# Altium footprint library MF_Passives.PCBLIB: 20 footprints (part 1 of 2)
Each footprint in its own frame and in the unit in brackets; x right, y up, seen from the top. Pads: shape width x height; smd on the part's side, far side on the other; paste and mask are expansions set on the pad; w line width, h text height; cw(c..) or ccw(c..) is an arc to the next point about the centre after c.
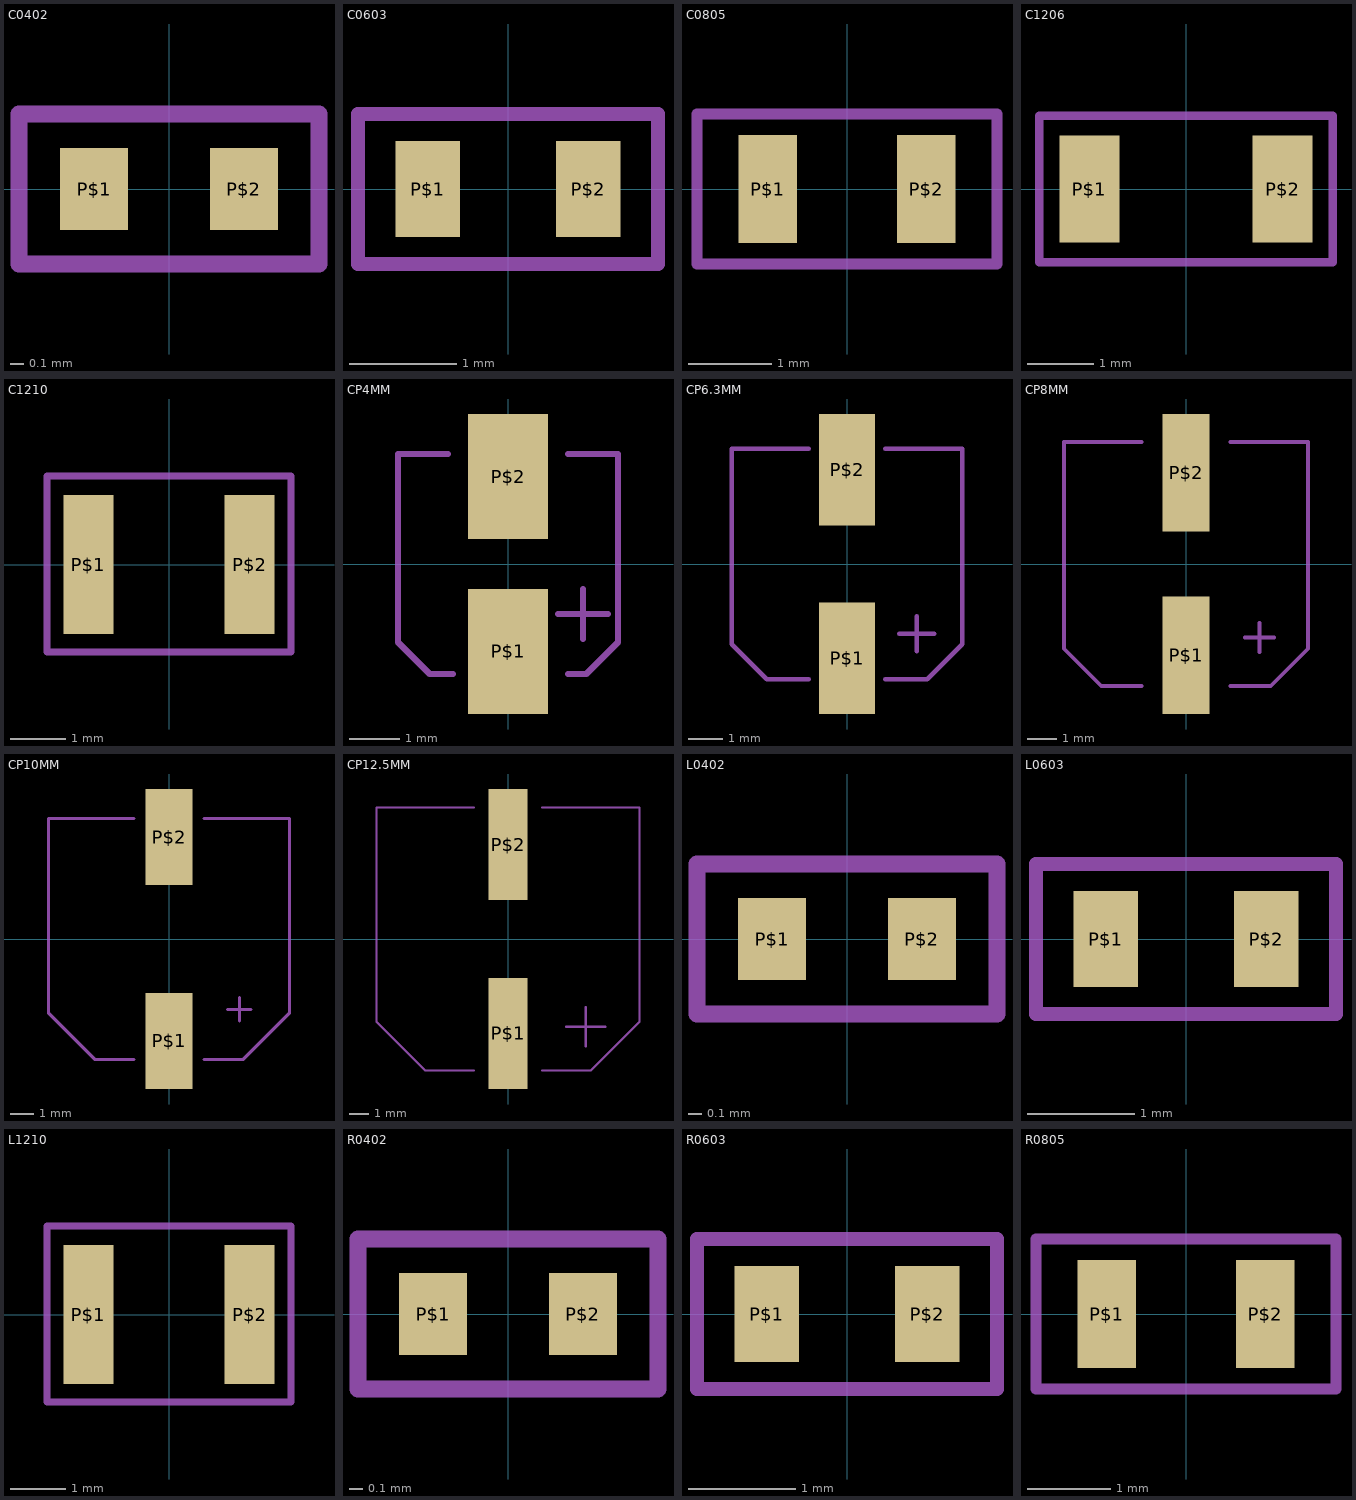
[diagram p0: the footprints below, top view; thin cyan lines are the x and y axes]

## C0402 [mm]
pads (2):
  rect 0.5x0.6 smd: P$1(-0.55,0) P$2(0.55,0)
Mechanical 22:
  lines w0.127: -1.1,-0.55 -1.1,0.55 1.1,0.55 1.1,-0.55 -1.1,-0.55

## C0603 [mm]
pads (2):
  rect 0.6x0.9 smd: P$1(-0.75,0) P$2(0.75,0)
Mechanical 22:
  lines w0.127: -1.4,-0.7 -1.4,0.7 1.4,0.7 1.4,-0.7 -1.4,-0.7

## C0805 [mm]
pads (2):
  rect 0.7x1.3 smd: P$1(-0.95,0) P$2(0.95,0)
Mechanical 22:
  lines w0.127: -1.8,-0.9 -1.8,0.9 1.8,0.9 1.8,-0.9 -1.8,-0.9

## C1206 [mm]
pads (2):
  rect 0.9x1.6 smd: P$1(-1.45,0) P$2(1.45,0)
Mechanical 22:
  lines w0.127: -2.2,-1.1 -2.2,1.1 2.2,1.1 2.2,-1.1 -2.2,-1.1

## C1210 [mm]
pads (2):
  rect 0.9x2.5 smd: P$1(-1.45,0) P$2(1.45,0)
Mechanical 22:
  lines w0.127: -2.2,-1.575 -2.2,1.6 2.2,1.6 2.2,-1.575 -2.2,-1.575

## CP4MM [mm]
pads (2):
  rect 1.6x2.5 smd: P$1(0,-1.75) P$2(0,1.75)
Mechanical 22:
  lines w0.127: -1.2,2.2 -2.2,2.2 -2.2,-1.564 -1.564,-2.2 -1.1,-2.2 ; 1,-1 2,-1 ; 1.2,-2.2 1.564,-2.2 2.2,-1.564 2.2,2.2 1.2,2.2 ; 1.5,-1.5 1.5,-0.5

## CP6.3MM [mm]
pads (2):
  rect 1.6x3.2 smd: P$1(0,-2.7) P$2(0,2.7)
Mechanical 22:
  lines w0.127: -1.1,-3.3 -2.3,-3.3 -3.3,-2.3 -3.3,3.3 -1.1,3.3 ; 1.1,-3.3 2.3,-3.3 3.3,-2.3 3.3,3.3 1.1,3.3 ; 1.5,-2 2.5,-2 ; 2,-2.5 2,-1.5

## CP8MM [mm]
pads (2):
  rect 1.6x4 smd: P$1(0,-3.1) P$2(0,3.1)
Mechanical 22:
  lines w0.127: -1.5,-4.15 -2.88,-4.15 -4.15,-2.88 -4.15,4.15 -1.5,4.15 ; 1.5,-4.15 2.88,-4.15 4.15,-2.88 4.15,4.15 1.5,4.15 ; 2,-2.5 3,-2.5 ; 2.5,-3 2.5,-2

## CP10MM [mm]
pads (2):
  rect 2x4.1 smd: P$1(0,-4.35) P$2(0,4.35)
Mechanical 22:
  lines w0.127: -1.5,-5.15 -3.15,-5.15 -5.15,-3.15 -5.15,5.15 -1.5,5.15 ; 1.5,-5.15 3.15,-5.15 5.15,-3.15 5.15,5.15 1.5,5.15 ; 2.5,-3 3.5,-3 ; 3,-3.5 3,-2.5

## CP12.5MM [mm]
pads (2):
  rect 2x5.7 smd: P$1(0,-4.85) P$2(0,4.85)
Mechanical 22:
  lines w0.127: -1.75,-6.75 -4.25,-6.75 -6.75,-4.25 -6.75,6.75 -1.75,6.75 ; 1.75,-6.75 4.25,-6.75 6.75,-4.25 6.75,6.75 1.75,6.75 ; 3,-4.5 5,-4.5 ; 4,-5.5 4,-3.5

## L0402 [mm]
pads (2):
  rect 0.5x0.6 smd: P$1(-0.55,0) P$2(0.55,0)
Mechanical 22:
  lines w0.127: -1.1,-0.55 -1.1,0.55 1.1,0.55 1.1,-0.55 -1.1,-0.55

## L0603 [mm]
pads (2):
  rect 0.6x0.9 smd: P$1(-0.75,0) P$2(0.75,0)
Mechanical 22:
  lines w0.127: -1.4,-0.7 -1.4,0.7 1.4,0.7 1.4,-0.7 -1.4,-0.7

## L1210 [mm]
pads (2):
  rect 0.9x2.5 smd: P$1(-1.45,0) P$2(1.45,0)
Mechanical 22:
  lines w0.127: -2.2,-1.575 -2.2,1.6 2.2,1.6 2.2,-1.575 -2.2,-1.575

## R0402 [mm]
pads (2):
  rect 0.5x0.6 smd: P$1(-0.55,0) P$2(0.55,0)
Mechanical 22:
  lines w0.127: -1.1,-0.55 -1.1,0.55 1.1,0.55 1.1,-0.55 -1.1,-0.55

## R0603 [mm]
pads (2):
  rect 0.6x0.9 smd: P$1(-0.75,0) P$2(0.75,0)
Mechanical 22:
  lines w0.127: -1.4,-0.7 -1.4,0.7 1.4,0.7 1.4,-0.7 -1.4,-0.7

## R0805 [mm]
pads (2):
  rect 0.7x1.3 smd: P$1(-0.95,0) P$2(0.95,0)
Mechanical 22:
  lines w0.127: -1.8,-0.9 -1.8,0.9 1.8,0.9 1.8,-0.9 -1.8,-0.9